# EAGLE library part USBC_NOSBU (library custom)
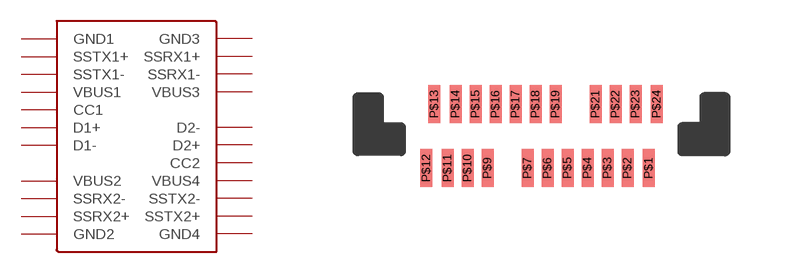
[diagram p3: symbol with the pads of KEYSTONE_953_NOPADS_NOSBU; footprint KEYSTONE_953_NOPADS_NOSBU]

Designator prefix -

## USBC_NOSBU  [KEYSTONE_953_NOPADS_NOSBU]
P$1  GND4
P$2  SSTX2+
P$3  SSTX2-
P$4  VBUS4
P$5  CC2
P$6  D2+
P$7  D2-
P$9  VBUS3
P$10  SSRX1-
P$11  SSRX1+
P$12  GND3
P$13  GND1
P$14  SSTX1+
P$15  SSTX1-
P$16  VBUS1
P$17  CC1
P$18  D1+
P$19  D1-
P$21  VBUS2
P$22  SSRX2-
P$23  SSRX2+
P$24  GND2

## Footprint KEYSTONE_953_NOPADS_NOSBU (pad centres in mm)
smd 0.3 x 0.95: P$1 2.68,4.575; P$2 2.15,4.575; P$3 1.65,4.575; P$4 1.15,4.575; P$5 0.65,4.575; P$6 0.15,4.575; P$7 -0.35,4.575; P$9 -1.35,4.575; P$10 -1.85,4.575; P$11 -2.35,4.575; P$12 -2.88,4.575; P$13 -2.68,6.175; P$14 -2.15,6.175; P$15 -1.65,6.175; P$16 -1.15,6.175; P$17 -0.65,6.175; P$18 -0.15,6.175; P$19 0.35,6.175; P$21 1.35,6.175; P$22 1.85,6.175; P$23 2.35,6.175; P$24 2.88,6.175